# EAGLE library part ESP32 (library SD-SolderSync)
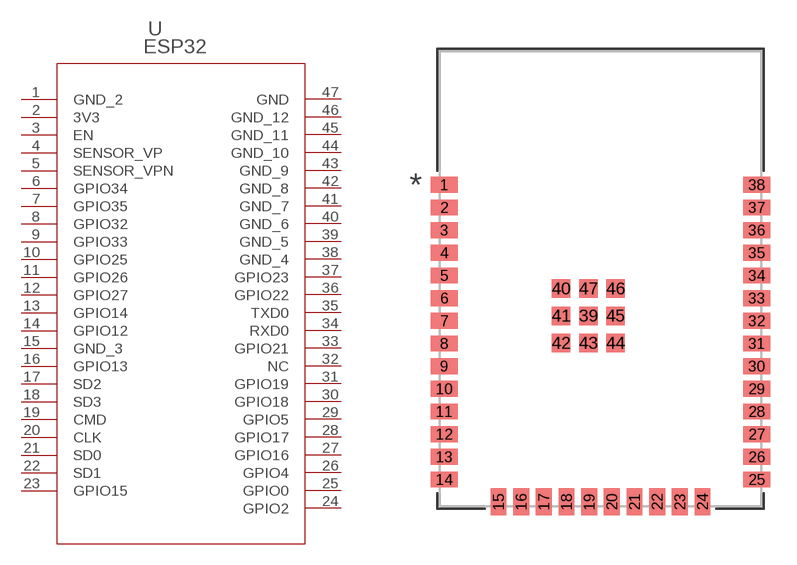
[diagram p1: symbol with the pads of ESP32_SCH_PCB; footprint ESP32_SCH_PCB]

Designator prefix U

## ESP32ESP-WROOM-32_EXP (COPYRIGHT: Copyright (C) 2024 Ultra Librarian. All rights reserved.; MANUFACTURER_PART_NUMBER: ESP-WROOM-32; MFR_NAME: Espressif Systems)  [ESP32_SCH_PCB]
1  GND_2  pas
2  3V3  pwr
3  EN  in
4  SENSOR_VP  in
5  SENSOR_VPN  in
6  GPIO34  in
7  GPIO35  in
8  GPIO32
9  GPIO33
10  GPIO25
11  GPIO26
12  GPIO27
13  GPIO14
14  GPIO12
15  GND_3  pas
16  GPIO13
17  SD2  nc
18  SD3  nc
19  CMD  nc
20  CLK  nc
21  SD0  nc
22  SD1  nc
23  GPIO15
24  GPIO2
25  GPIO0
26  GPIO4
27  GPIO16
28  GPIO17
29  GPIO5
30  GPIO18
31  GPIO19
32  NC  nc
33  GPIO21
34  RXD0
35  TXD0
36  GPIO22
37  GPIO23
38  GND_4  pas
39  GND_5  pas
40  GND_6  pas
41  GND_7  pas
42  GND_8  pas
43  GND_9  pas
44  GND_10  pas
45  GND_11  pas
46  GND_12  pas
47  GND  pas

## Footprint ESP32_SCH_PCB (pad centres in mm)
smd 1.499 x 0.889: 1 -8.75,5.26; 2 -8.75,3.99; 3 -8.75,2.72; 4 -8.75,1.45; 5 -8.75,0.18; 6 -8.75,-1.09; 7 -8.75,-2.36; 8 -8.75,-3.63; 9 -8.75,-4.9; 10 -8.75,-6.17; 11 -8.75,-7.44; 12 -8.75,-8.71; 13 -8.75,-9.98; 14 -8.75,-11.25; 25 8.75,-11.25; 26 8.75,-9.98; 27 8.75,-8.71; 28 8.75,-7.44; 29 8.75,-6.17; 30 8.75,-4.9; 31 8.75,-3.63; 32 8.75,-2.36; 33 8.75,-1.09; 34 8.75,0.18; 35 8.75,1.45; 36 8.75,2.72; 37 8.75,3.99; 38 8.75,5.26
smd 0.889 x 1.499: 15 -5.715,-12.501; 16 -4.445,-12.501; 17 -3.175,-12.501; 18 -1.905,-12.501; 19 -0.635,-12.501; 20 0.635,-12.501; 21 1.905,-12.501; 22 3.175,-12.501; 23 4.445,-12.501; 24 5.715,-12.501
smd 1.041 x 1.041: 39 -0.681,-2.08; 40 -2.205,-0.556; 41 -2.205,-2.08; 42 -2.205,-3.604; 43 -0.681,-3.604; 44 0.843,-3.604; 45 0.843,-2.08; 46 0.843,-0.556; 47 -0.681,-0.556